# Altium schematic symbol library Custom pcb schamatic.SchLib: 48 symbols
Pins are listed as number, name and electrical type; pins without a type are passive.

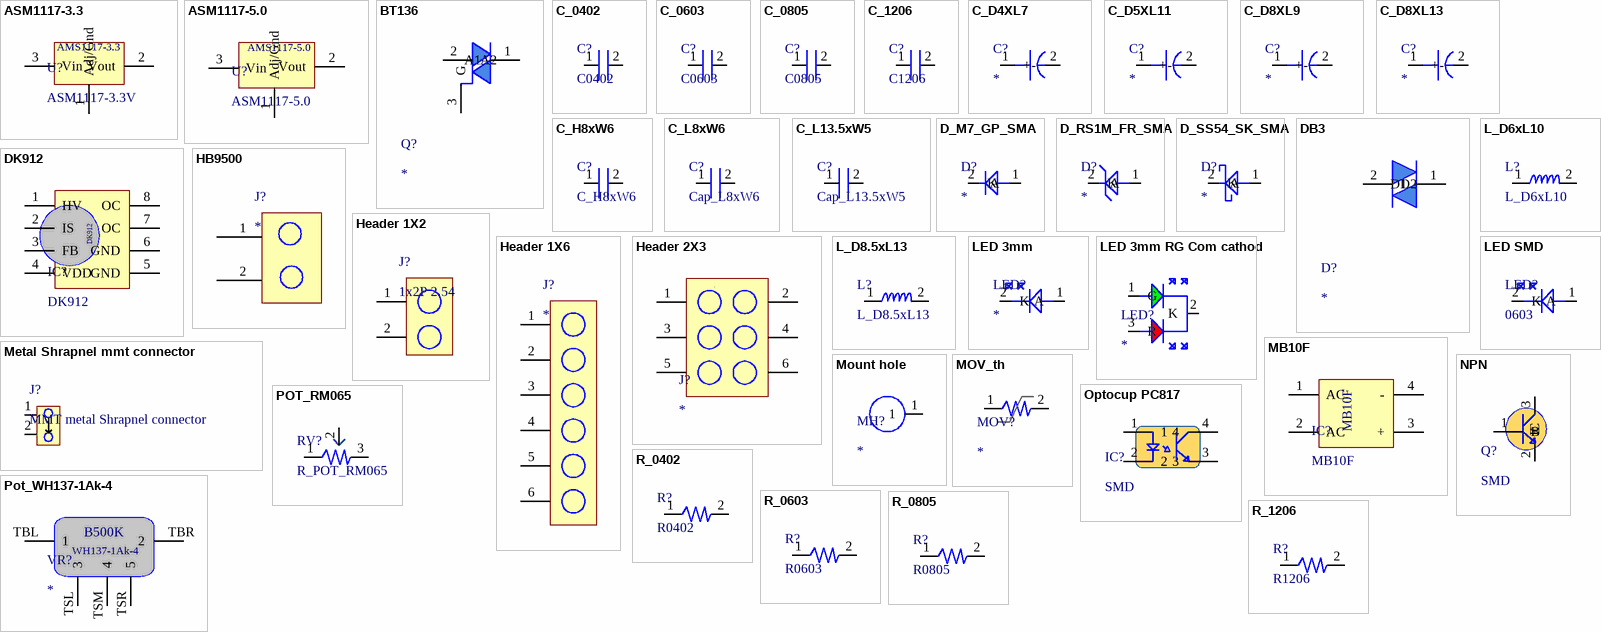
[diagram p0: symbols ASM1117-3.3 to R_1206]

## ASM1117-3.3
designator U?, comment ASM1117-3.3V
ASM1117-3.3V SOT-223; PN: *; Link: *
footprint AMS117-3.3
pins: 1 Adj/Gnd, 2 Vout, 3 Vin
text: AMS1117-3.3

## ASM1117-5.0
designator U?
ASM1117-5.0V SOT-223; PN: *; Link: *
footprint Ams117-5.0
pins: 1 Adj/Gnd, 2 Vout, 3 Vin
text: AMS1117-5.0

## BT136
designator Q?
PN: BT136-600E; Link: https://www.lcsc.com/product-detail/TRIACs_Minos-BT136-600E_C2980276.html
footprint TO220 (3 pin transistor 2.54 pitch)
pins: 1 A1, 2 A2, 3 G

## C_0402
designator C?, comment C0402
PN: *; Link: *
footprint C_0402
pins: 1, 2

## C_0603
designator C?, comment C0603
PN: *; Link: *
footprint C_0603
pins: 1, 2

## C_0805
designator C?, comment C0805
Pn: *; Link: *
footprint C_0805
pins: 1, 2

## C_1206
designator C?, comment C1206
PN: *; Link: *
footprint C_1206
pins: 1, 2

## C_D4XL7
designator C?
P=1.5mm; PN: *; Link: *
footprint CAP_D4XL7 (p=1.5mm)
pins: 1 +, 2 -

## C_D5XL11
designator C?
P=2mm
footprint CAP_D5XL11 (p=2mm)
pins: 1 +, 2 -

## C_D8XL9
designator C?
P=3.5mm; PN: *; Link: *
footprint CAP_D8XL9 (p=3.5mm)
pins: 1 +, 2 -

## C_D8XL13
designator C?
P=3.5mm; PN: *; Link: *
footprint CAP_D8XL13 (p=3.5mm)
pins: 1 +, 2 -

## C_H8xW6
designator C?
P=5mm; PN: *; Link: *
footprint C_H8xW6 (p=5mm)
pins: 1, 2

## C_L8xW6
designator C?, comment Cap_L8xW6
P=8mm
footprint C_L8xW6 (P=8mm)
pins: 1, 2

## C_L13.5xW5
designator C?, comment Cap_L13.5xW5
P=10mm
footprint C_L13.5xW5 (p=10mm)
pins: 1, 2

## D_M7_GP_SMA
designator D?
PN: *; Link: *
footprint SMA_M7
pins: 1 A, 2 K

## D_RS1M_FR_SMA
designator D?
PN: *; Link: *
footprint SMA_M7
pins: 1 A, 2 K

## D_SS54_SK_SMA
designator D?
PN: *; Link: *
footprint SMA_M7
pins: 1 A, 2 K

## DB3
designator D?
footprint DB3
pins: 1 D1, 2 D2

## DK912
designator IC?
Link: *; PN: *
footprint SOP8
pins: 1 HV, 2 IS, 3 FB, 4 VDD, 5 GND, 6 GND, 7 OC, 8 OC

## HB9500
designator J?
P=9.5mm , 2P; PN: HB9500; Link: https://rarecomponents.com/store/HB9500-2P
footprint HB9500_2P
pins: 1, 2

## Header 1X2
designator J?, comment 1x2P 2.54
Straight Square Pins 2.5mm 6mm 2P -40℃~+105℃ 3mm 2.54mm Black Brass Plugin 2.54mm 1x2P Plugin,P=2.54mm Pin Headers ROHS; PN: P125-1102A0AS116A2; Link: https://www.lcsc.com/product-detail/Pin-Headers_Yxcon-P125-1102A0AS116A2_C7494856.html
footprint Male Header 1X2
pins: 1, 2

## Header 1X6
designator J?
P=2.54mm
footprint Male Header 1X6
pins: 1, 2, 3, 4, 5, 6

## Header 2X3
designator J?
P=2.54mm
footprint Male header 2X3
pins: 1, 2, 3, 4, 5, 6

## L_D6xL10
designator L?
P=4mm
footprint L_D6xL10 (p=4mm)
pins: 1, 2

## L_D8.5xL13
designator L?
P=6mm
footprint L_D8.5xL13 (p=6mm)
pins: 1, 2

## LED 3mm
designator LED?
P=2.54mm
footprint 3mm LED
pins: 1 A, 2 K

## LED 3mm RG Com cathod
designator LED?
Red Green Common Cathode  P=2.54mm; PN: XL-A324SURSYGW; Link: https://www.lcsc.com/datasheet/lcsc_datasheet_2401120947_XINGLIGHT-XL-A324SURSYGW_C2895562.pdf
pins: 1 G, 2 K, 3 R

## LED SMD
designator LED?, comment 0603
30mA 566nm~576nm -40℃~+85℃ Green-yellow 120° 1.8V~2.4V 0603 Light Emitting Diodes (LED) ROHS; PN: YLED0603YG; Link: https://www.lcsc.com/product-detail/Light-Emitting-Diodes-LED_YONGYUTAI-YLED0603YG_C19171392.html
footprint L_0603 (SMD LED)
pins: 1 A, 2 K

## MB10F
designator IC?
SMD; Link: *; PN: *
footprint MB10F
pins: 1 AC, 2 AC, 3 +, 4 -

## Metal Shrapnel mmt connector
designator J?, comment MMT metal Shrapnel connector
Metal Shrapnel mmt connector mobile charger; PN: *; Link: https://mmt2018.en.made-in-china.com/product/rjtmlFMyLiks/China-Mmt-AC-Mobile-Phone-Charger-Metal-Shrapnel-Contact.html
footprint MMT Metal shrapnel connector
pins: 1, 2

## Mount hole
designator MH?
M3
footprint Mount hole
pins: 1

## MOV_th
designator MOV?
p=7mm D9; PN: *; Link: *
footprint MOV_th (p=7mm)
pins: 1, 2

## NPN
designator Q?, comment SMD
40V 200mW 100@100mA,1V 200mA NPN SOT-23 Bipolar Transistors - BJT ROHS; PN: MMBT3904; Link: https://www.lcsc.com/product-detail/Bipolar-Transistors-BJT_YONGYUTAI-MMBT3904_C2891808.html
footprint SOT23 (SOT23, 3-Leads, Body 2.90x2.45mm, Pitch 0.95mm, IPC Medium Density)
pins: 1 B, 2 E, 3 C

## Optocup PC817
designator IC?, comment SMD
5kV 50mA 100mV@1mA,20mA 1 6V 1.2V DC SMD-4P Transistor Output Optocoupler ROHS; PN: PC817C; Link: https://www.lcsc.com/product-detail/Transistor-Output-Optocoupler_GOODWORK-PC817C_C3025164.html
footprint Optocuplar (4P SMD PC817)
pins: 1, 2, 3, 4

## POT_RM065
designator RV?, comment R_POT_RM065
footprint POT_RM065 (3 pin pot)
pins: 1, 2, 3

## Pot_WH137-1Ak-4
designator VR?
PN: WH137-1Ak-4; Link: http://www.antel.cn/product_show.asp?CID1=37&CID2=256&ID=11103
footprint Pot_WH137-1Ak-4 (Fan POT _B600K)
pins: TBL 1, TBR 2, TSL 3, TSM 4, TSR 5
text: B500K

## R_0402
designator R?, comment R0402
footprint R_0402
pins: 1, 2

## R_0603
designator R?, comment R0603
PN: *; Link: *
footprint R_0603
pins: 1, 2

## R_0805
designator R?, comment R0805
PN: *; Link: *
footprint R_0805
pins: 1, 2

## R_1206
designator R?, comment R1206
footprint R_1206
pins: 1, 2

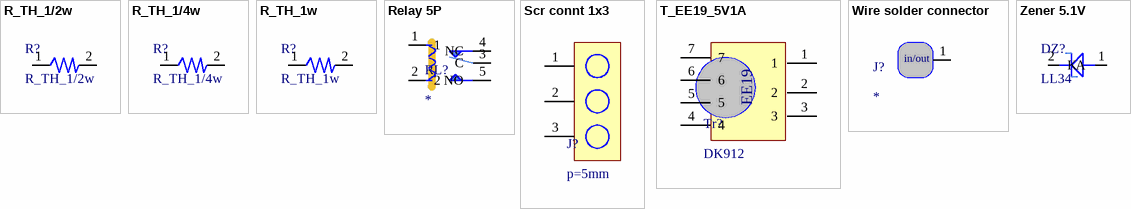
[diagram p1: symbols R_TH_1/2w to Zener 5.1V]

## R_TH_1/2w
designator R?
PN: *; Link: *
footprint R_TH_1/2W
pins: 1, 2

## R_TH_1/4w
designator R?
PN: *; Link: *
footprint R_TH_1/4w
pins: 1, 2

## R_TH_1w
designator R?
PN: *; Link: *
footprint R_TH_1W
pins: 1, 2

## Relay 5P
designator RL?
PN: SRD-05VDC-SL-C; Link: https://www.lcsc.com/product-detail/Relays_SRD-05VDC-SL-C_C35449.html
footprint Relay 5P
pins: 1, 2, 3 C, 4 NC, 5 NO

## Scr connt 1x3
designator J?, comment p=5mm
1x3P -30℃~+120℃ 17A 250V Blue 14~22 Straight 5mm 1.5 1 3 Plugin,P=5mm Screw terminal ROHS; PN: KF301-5.0-3P; Link: https://www.lcsc.com/product-detail/Screw-terminal_Cixi-Kefa-Elec-KF301-5-0-3P_C474882.html
footprint Scr connt 1x3 (p=5mm)
pins: 1, 2, 3

## T_EE19_5V1A
designator Tr?, comment DK912
Link: *; PN: *
footprint T_EE19_5V1A
pins: 1, 2, 3, 4, 5, 6, 7
text: EE19

## Wire solder connector
designator J?
footprint Wire solder connector
pins: 1
text: in/out

## Zener 5.1V
designator DZ?, comment LL34
Single 4.8V~5.4V 500mW 5.1V LL-34 Zener Diodes ROHS; PN: ZMM5V1; Link: https://www.lcsc.com/product-detail/Zener-Diodes_HXY-MOSFET-ZMM5V1_C5345992.html
footprint LL34 (Zener)
pins: 1 A, 2 K